# Altium footprint library PcbLib1.PcbLib: 10 footprints
Each footprint in its own frame and in the unit in brackets; x right, y up, seen from the top. Pads: shape width x height; smd on the part's side, far side on the other; paste and mask are expansions set on the pad; w line width, h text height; cw(c..) or ccw(c..) is an arc to the next point about the centre after c.
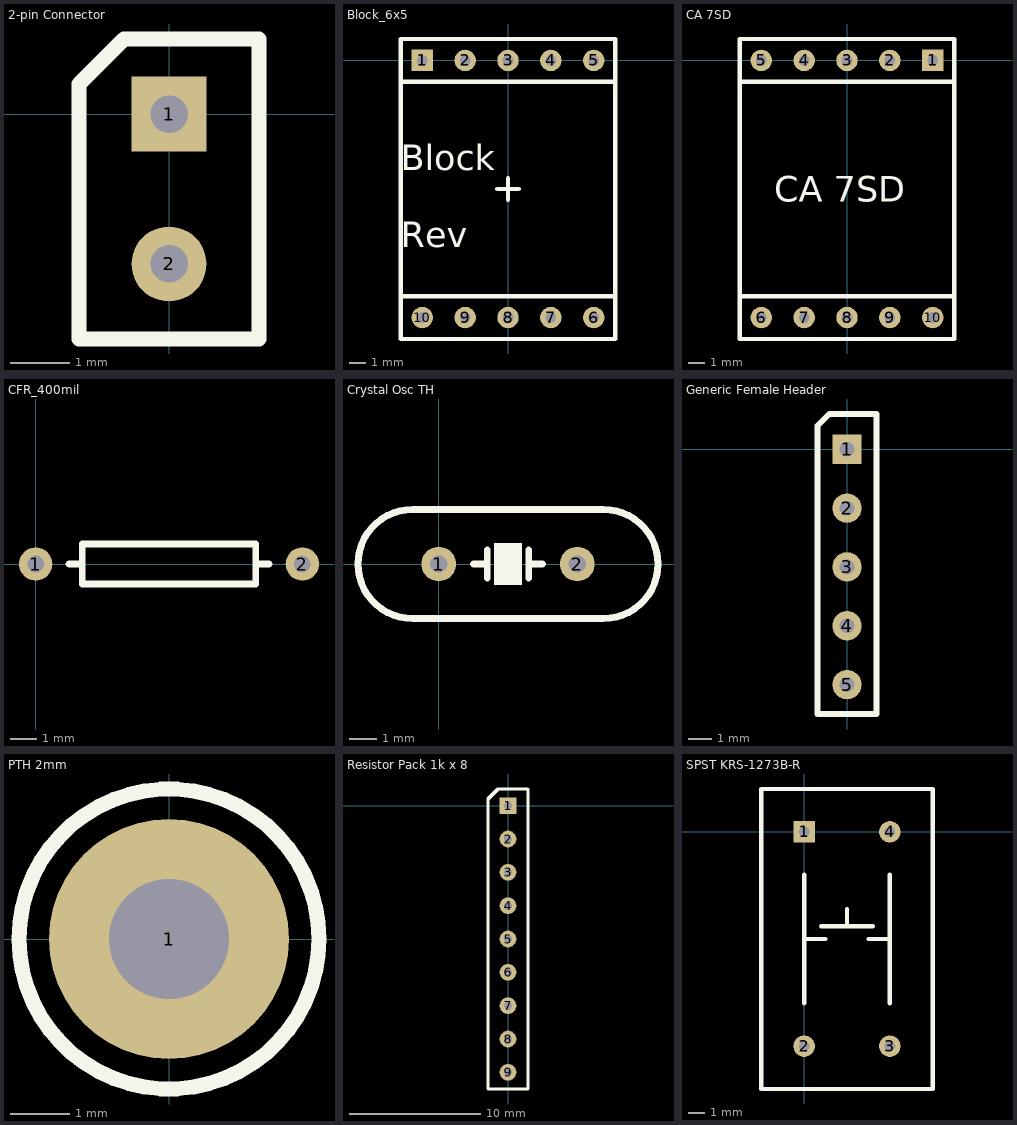
[diagram p0: the footprints below, top view; thin cyan lines are the x and y axes]

## 2-pin Connector [mil]
pads (2):
  rect 50x50 hole 25: 1(0,0)
  round 50 hole 25: 2(0,-100)
Top Overlay:
  lines w10: -60,-150 60,-150 60,50 -30,50 -60,20 -60,-150

## Block_6x5 [mil]
pads (10):
  rect 50x50 hole 25: 1(-200,0)
  round 50 hole 25: 2(-100,0) 3(0,0) 4(100,0) 5(200,0) 6(200,-600) 7(100,-600) 8(0,-600) 9(-100,-600) 10(-200,-600)
Top Overlay:
  lines w10: -250,-550 250,-550 ; -250,-50 250,-50 ; -25,-300 25,-300 ; 0,-325 0,-275 ; -250,-650 250,-650 250,50 -250,50 -250,-650
  text "Block /  / Rev" at -250,-435.97 h60

## CA 7SD [mil]
pads (10):
  rect 50x50 hole 25: 1(200,0)
  round 50 hole 25: 2(100,0) 3(0,0) 4(-100,0) 5(-200,0) 6(-200,-600) 7(-100,-600) 8(0,-600) 9(100,-600) 10(200,-600)
Top Overlay:
  lines w10: -250,-550 250,-550 ; -250,-50 250,-50 ; -250,-650 -250,50 250,50 250,-650 -250,-650
  text "CA 7SD" at -169.94,-329.99 h60

## CFR_400mil [mil]
pads (2):
  round 50 hole 25: 1(0,0) 2(400,0)
Top Overlay:
  lines w10: 50,0 70,0 ; 330,0 350,0 ; 70,-30 330,-30 330,30 70,30 70,-30

## Crystal Osc TH [mil]
pads (2):
  round 50 hole 25: 1(0,0) 2(200,0)
Top Overlay:
  rectangle: 80,-30 120,30
  lines w10: 50,0 70,0 ; 70,-20 70,20 ; 130,-20 130,20 ; 130,0 150,0 ; -116.54,0 cw(c-37.8,0) -37.8,78.74 237.8,78.74 cw(c237.8,0) 316.54,0 ; -116.54,0 ccw(c-37.8,0) -37.8,-78.74 237.8,-78.74 ccw(c237.8,0) 316.54,0 ; -116.54,0 -116.54,0 ; 316.54,0 316.54,0

## Generic Female Header [mil]
pads (5):
  rect 50x50 / inner rect 100x50 / far side rect 50x50 hole 25: 1(0,0)
  round 50 / inner oval 100x50 / far side round 50 hole 25: 2(0,-100) 3(0,-200) 4(0,-300) 5(0,-400)
Top Overlay:
  lines w10: -50,-450 -50,40 -30,60 50,60 50,-450 -50,-450

## PCBComponent_1 [mil]

## PTH 2mm [mil]
pads (1):
  round 160 hole 80: 1(0,0)
Top Overlay:
  circle w10: c0,0 r100

## Resistor Pack 1k x 8 [mil]
pads (9):
  rect 50x50 hole 25: 1(0,0)
  round 50 hole 25: 2(0,-100) 3(0,-200) 4(0,-300) 5(0,-400) 6(0,-500) 7(0,-600) 8(0,-700) 9(0,-800)
Top Overlay:
  lines w10: -60,-850 -60,20 -30,50 60,50 60,-850 -60,-850

## SPST KRS-1273B-R [mil]
pads (4):
  rect 50x50 hole 25: 1(0,0)
  round 50 hole 25: 2(0,-500) 3(200,-500) 4(200,0)
Top Overlay:
  lines w10: 0,-400 0,-100 ; 0,-250 50,-250 ; 40,-220 160,-220 ; 100,-220 100,-180 ; 150,-250 200,-250 ; 200,-400 200,-100 ; -100,-600 300,-600 300,100 -100,100 -100,-600